# Altium schematic symbol library ADP7118AUJZ.SchLib: 1 symbol
Pins are listed as number, name and electrical type; pins without a type are passive.

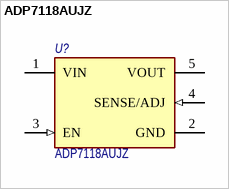
[diagram p0: symbol ADP7118AUJZ]

## ADP7118AUJZ
designator U?, comment Наименование: ADP7118AUJZ  (hidden comment: ADP7118AUJZ-R7)
IC REG LIN 3.3V 200MA TSOT23-5; Dropout Voltage: 200mV; Number of Regulators: 1; Max Input Voltage: 20V; Output Type: Fixed; Min Input Voltage: 2.7V; Output Voltage: ADJ; Quiescent Current: 140uA; Polarity: Positive; Min Current Limit: 250mA; Accuracy: 0.8%; Потребление, Вт: 0.1; Max Operating Temperature: 125°C; Min Operating Temperature: -40°C; Number of Outputs: 1; Contact Plating: Tin; Output Current: 200mA; Lead Free: Contains Lead; Number of Pins: 5; Mount: Surface Mount; Case/Package: SOT-23-5; Max Output Current: 200mA; Packaging: Tape and Reel; ComponentLink1Description: DataSheet; ComponentLink1URL: https://docviewer.yandex.ru/view/1130000047837965/?page=19&*=2rkdzKXVI2nKAp3V6Utj%2B%2BKzKcF7InVybCI6Imh0dHBzOi8vd3d3LmFuYWxvZy5jb20vbWVkaWEvZW4vdGVjaG5pY2FsLWRvY3VtZW50YXRpb24vZGF0YS1zaGVldHMvYWRwNzExOC5wZGYiLCJ0aXRsZSI6ImFkcDcxMTgucGRmIiwibm9pZnJhbWUiOnRydWUsInVpZCI6IjExMzAwMDAwNDc4Mzc5NjUiLCJ0cyI6MTYxODU3OTA3NzMzNSwieXUiOiIyNjc3NTcxMjUxNjA1ODU2MTM0Iiwic2VycFBhcmFtcyI6Imxhbmc9ZW4mdG09MTYxODU3OTA3MyZ0bGQ9cnUmbmFtZT1hZHA3MTE4LnBkZiZ0ZXh0PUFEUDcxMThBVUpaJnVybD1odHRwcyUzQS8vd3d3LmFuYWxvZy5jb20vbWVkaWEvZW4vdGVjaG5pY2FsLWRvY3VtZW50YXRpb24vZGF0YS1zaGVldHMvYWRwNzExOC5wZGYmbHI9NjUmbWltZT1wZGYmbDEwbj1ydSZzaWduPTQwZTU0NTk4NzE5MTAzMzg2YjJhOGMwMTY1NWE1NWVmJmtleW5vPTAifQ%3D%3D&lang=en; Назначение: IC REG LIN 3.3V 200MA TSOT23-5
footprint TSOT-5
pins: 1 VIN (power), 2 GND (power), 3 EN (in), 4 SENSE/ADJ (in), 5 VOUT